# Altium footprint library DFN3X3-8L.PcbLib: 1 footprints
Each footprint in its own frame and in the unit in brackets; x right, y up, seen from the top. Pads: shape width x height; smd on the part's side, far side on the other; paste and mask are expansions set on the pad; w line width, h text height; cw(c..) or ccw(c..) is an arc to the next point about the centre after c.
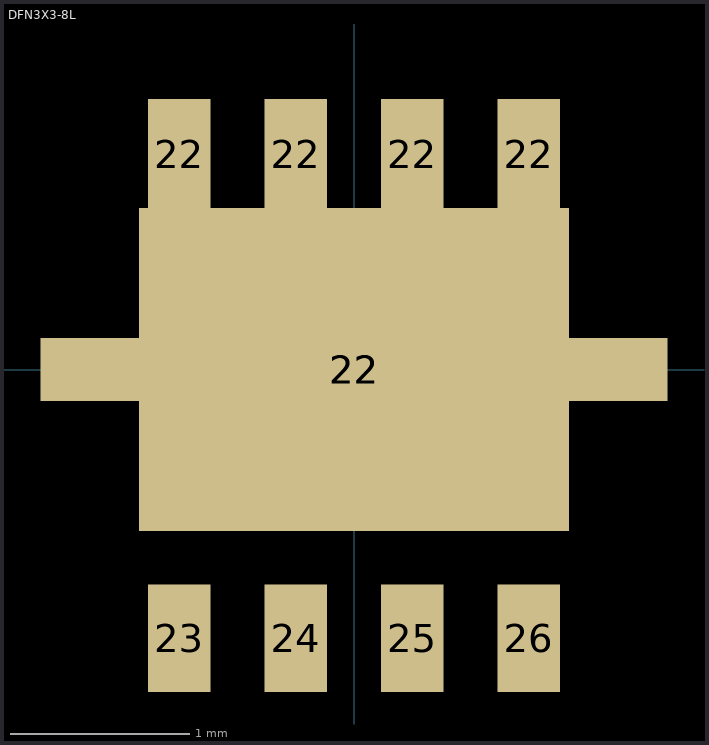
[diagram p0: the footprint, top view; thin cyan lines are the x and y axes]

## DFN3X3-8L [mm]
pads (10):
  rect 0.35x0.62 smd: 22(-0.975,1.2) 22(-0.325,1.2) 22(0.325,1.2) 22(0.975,1.2)
  rect 3.5x0.35 smd: 22(0,0)
  rect 2.4x1.8 smd: 22(0,0)
  rect 0.35x0.6 smd: 23(-0.975,-1.5) 24(-0.325,-1.5) 25(0.325,-1.5) 26(0.975,-1.5)
3D body: height 0.25, standoff 0, extent -1.587,-1.651 1.587,1.397